# Altium schematic symbol library TVS.SchLib: 1 symbol
Pins are listed as number, name and electrical type; pins without a type are passive.

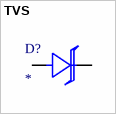
[diagram p0: symbol TVS]

## TVS
designator D?
Value: *
pins: 1 K, 2 A